# EAGLE library part STELLARIS_LAUNCHPAD_EM_HEADERS (library AustinBlackstoneEngineeringPublic)
EM Headers for Stellaris Launchpads. This device is the skyward facing part. (traditionally the femals part) The part that goes on top of this is samtec
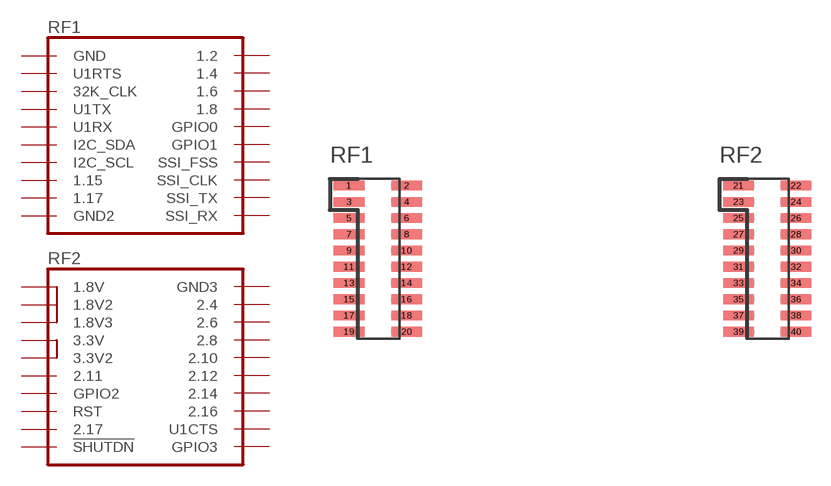
[diagram p2: symbol with the pads of 2_EMHEADER_TOP; footprint 2_EMHEADER_TOP]

Designator prefix -

## STELLARIS_LAUNCHPAD_EM_HEADERS  [2_EMHEADER_TOP]
1  GND
2  1.2
3  U1RTS
4  1.4
5  32K_CLK
6  1.6
7  U1TX
8  1.8
9  U1RX
10  GPIO0
11  I2C_SDA
12  GPIO1
13  I2C_SCL
14  SSI_FSS
15  1.15
16  SSI_CLK
17  1.17
18  SSI_TX
19  GND2
20  SSI_RX
21  1.8V
22  GND3
23  1.8V2
24  2.4
25  1.8V3
26  2.6
27  3.3V
28  2.8
29  3.3V2
30  2.10
31  2.11
32  2.12
33  GPIO2
34  2.14
35  RST
36  2.16
37  2.17
38  U1CTS
39  !SHUTDN
40  GPIO3

## Footprint 2_EMHEADER_TOP (pad centres in mm)
General EM Header Top Layer part. Reccomended use for Female part. Populate with Samtec part TFM-110-02-SM-D-A-K-TR (or close enough part) This part is a mirror of the EM Headers on the SensorHub booster pack, meant as a base to be used for further expansion (ie you would plug a boosterpack into these headers) Note: You CANNOT simply flip this part to get the recipricating part, this is because the mirror function in Eagle not only changes the side (top to bottom) but also mirrors the pins. Thus a seperate part is needed for the bottom. Check the library for "General EM Header Bottom Layer" for the complimenting part.
smd 2.4 x 0.76: 1 -0.537,12.192; 2 3.966,12.192; 3 -0.537,10.922; 4 3.966,10.922; 5 -0.537,9.652; 6 3.966,9.652; 7 -0.537,8.382; 8 3.966,8.382; 9 -0.537,7.112; 10 3.966,7.112; 11 -0.537,5.842; 12 3.966,5.842; 13 -0.537,4.572; 14 3.966,4.572; 15 -0.537,3.302; 16 3.966,3.302; 17 -0.537,2.032; 18 3.966,2.032; 19 -0.537,0.762; 20 3.966,0.762; 21 29.943,12.192; 22 34.446,12.192; 23 29.943,10.922; 24 34.446,10.922; 25 29.943,9.652; 26 34.446,9.652; 27 29.943,8.382; 28 34.446,8.382; 29 29.943,7.112; 30 34.446,7.112; 31 29.943,5.842; 32 34.446,5.842; 33 29.943,4.572; 34 34.446,4.572; 35 29.943,3.302; 36 34.446,3.302; 37 29.943,2.032; 38 34.446,2.032; 39 29.943,0.762; 40 34.446,0.762